# EAGLE library part FS8205A (library ic)
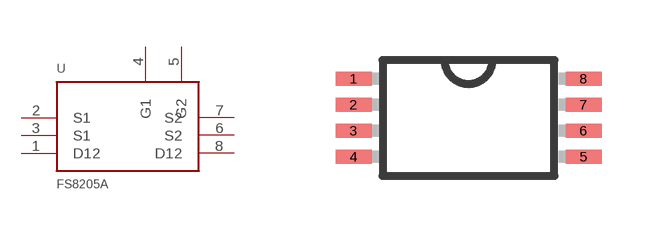
[diagram p2: symbol with the pads of TSSOP8; footprint TSSOP8]

Designator prefix -

## FS8205A  [TSSOP8]
1  D12
2  S1
3  S1
4  G1
5  G2
6  S2
7  S2
8  D12

## Footprint TSSOP8 (pad centres in mm)
8-Lead Thin Shrink Small Outline Package Source: http://www.analog.com/static/imported-files/data_sheets/AD8541_8542_8544.pdf
smd 0.9 x 0.35: 1 -2.875,0.975; 2 -2.875,0.325; 3 -2.875,-0.325; 4 -2.875,-0.975; 5 2.875,-0.975; 6 2.875,-0.325; 7 2.875,0.325; 8 2.875,0.975